# Altium footprint library MPU6050-GY521.PcbLib: 1 footprints
Each footprint in its own frame and in the unit in brackets; x right, y up, seen from the top. Pads: shape width x height; smd on the part's side, far side on the other; paste and mask are expansions set on the pad; w line width, h text height; cw(c..) or ccw(c..) is an arc to the next point about the centre after c.
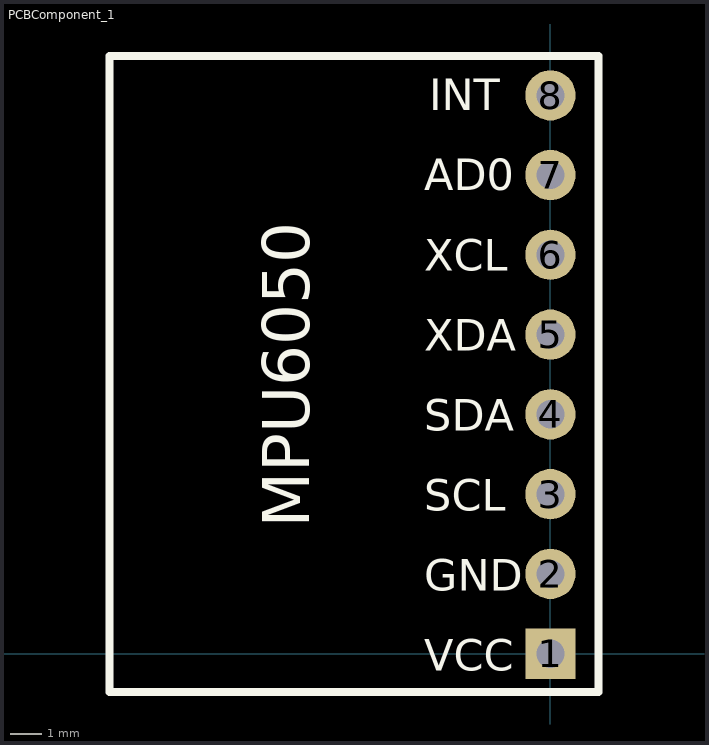
[diagram p0: the footprint, top view; thin cyan lines are the x and y axes]

## PCBComponent_1 [mm]
pads (8):
  rect 1.6x1.6 hole 0.9 paste-2539.97: 1(0,0)
  round 1.6 hole 0.9 paste-2539.97: 2(0,2.54) 3(0,5.08) 4(0,7.62) 5(0,10.16) 6(0,12.7) 7(0,15.24) 8(0,17.775)
Top Overlay:
  lines w0.254: -14.035,-1.225 -14.035,19.035 1.525,19.035 1.525,-1.225 -14.035,-1.225
  text "MPU6050" at -7.679,4.004 h1.5
  text "GND" at -4.021,2.003 h1
  text "AD0" at -4.021,14.747 h1
  text "XCL" at -4.021,12.199 h1
  text "XDA" at -4.021,9.65 h1
  text "SDA" at -4.021,7.101 h1
  text "SCL" at -4.021,4.552 h1
  text "VCC" at -4.021,-0.546 h1
  text "INT" at -3.854,17.296 h1